# Altium footprint library TE_2328702-4.PcbLib: 1 footprints
Each footprint in its own frame and in the unit in brackets; x right, y up, seen from the top. Pads: shape width x height; smd on the part's side, far side on the other; paste and mask are expansions set on the pad; w line width, h text height; cw(c..) or ccw(c..) is an arc to the next point about the centre after c.
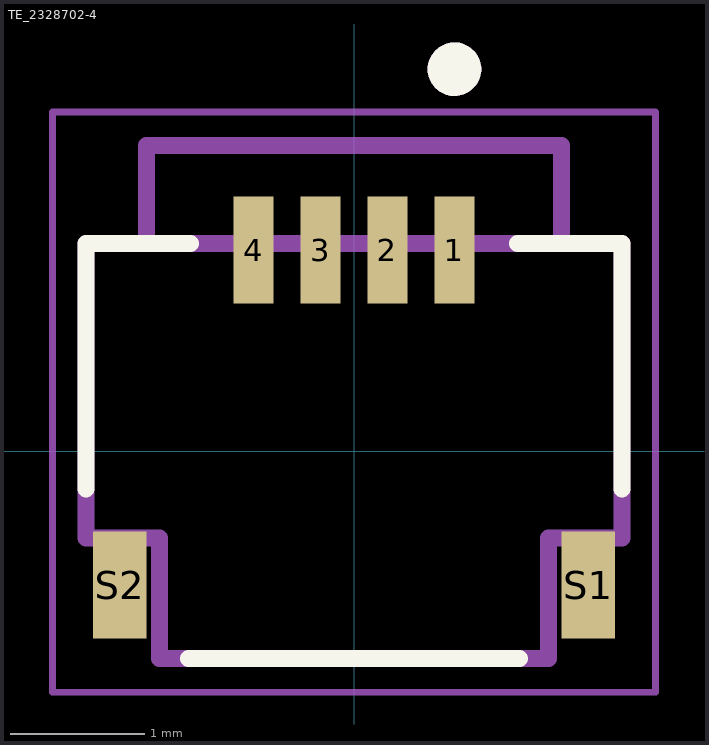
[diagram p0: the footprint, top view; thin cyan lines are the x and y axes]

## TE_2328702-4 [mm]
height 1.81
pads (6):
  rect 0.3x0.8 smd: 1(0.75,1.5) 2(0.25,1.5) 3(-0.25,1.5) 4(-0.75,1.5)
  rect 0.4x0.8 smd: S1(1.75,-1) S2(-1.75,-1)
Top Overlay:
  circle w0.2: c0.75,2.85 r0.1
  lines w0.127: -2,-0.285 -2,1.55 -1.22,1.55 ; -1.235,-1.55 1.235,-1.55 ; 1.22,1.55 2,1.55 2,-0.285
Mechanical 13:
  circle w0.2: c0.75,2.85 r0.1
  lines w0.127: -1.55,1.55 -2,1.55 -2,-0.65 -1.45,-0.65 -1.45,-1.55 1.45,-1.55 1.45,-0.65 2,-0.65 2,1.55 1.55,1.55 ; -1.55,1.55 -1.55,2.28 1.55,2.28 1.55,1.55 ; -1.55,1.55 1.55,1.55
Mechanical 15:
  lines w0.05: -2.25,-1.8 2.25,-1.8 2.25,2.53 -2.25,2.53 -2.25,-1.8
3D body "step_temp.STEP": height 1.06, standoff 0, extent -2,-1.55 2,2.282